# Altium footprint library PcbLib1.PcbLib: 264 footprints (part 9 of 17)
Each footprint in its own frame and in the unit in brackets; x right, y up, seen from the top. Pads: shape width x height; smd on the part's side, far side on the other; paste and mask are expansions set on the pad; w line width, h text height; cw(c..) or ccw(c..) is an arc to the next point about the centre after c.
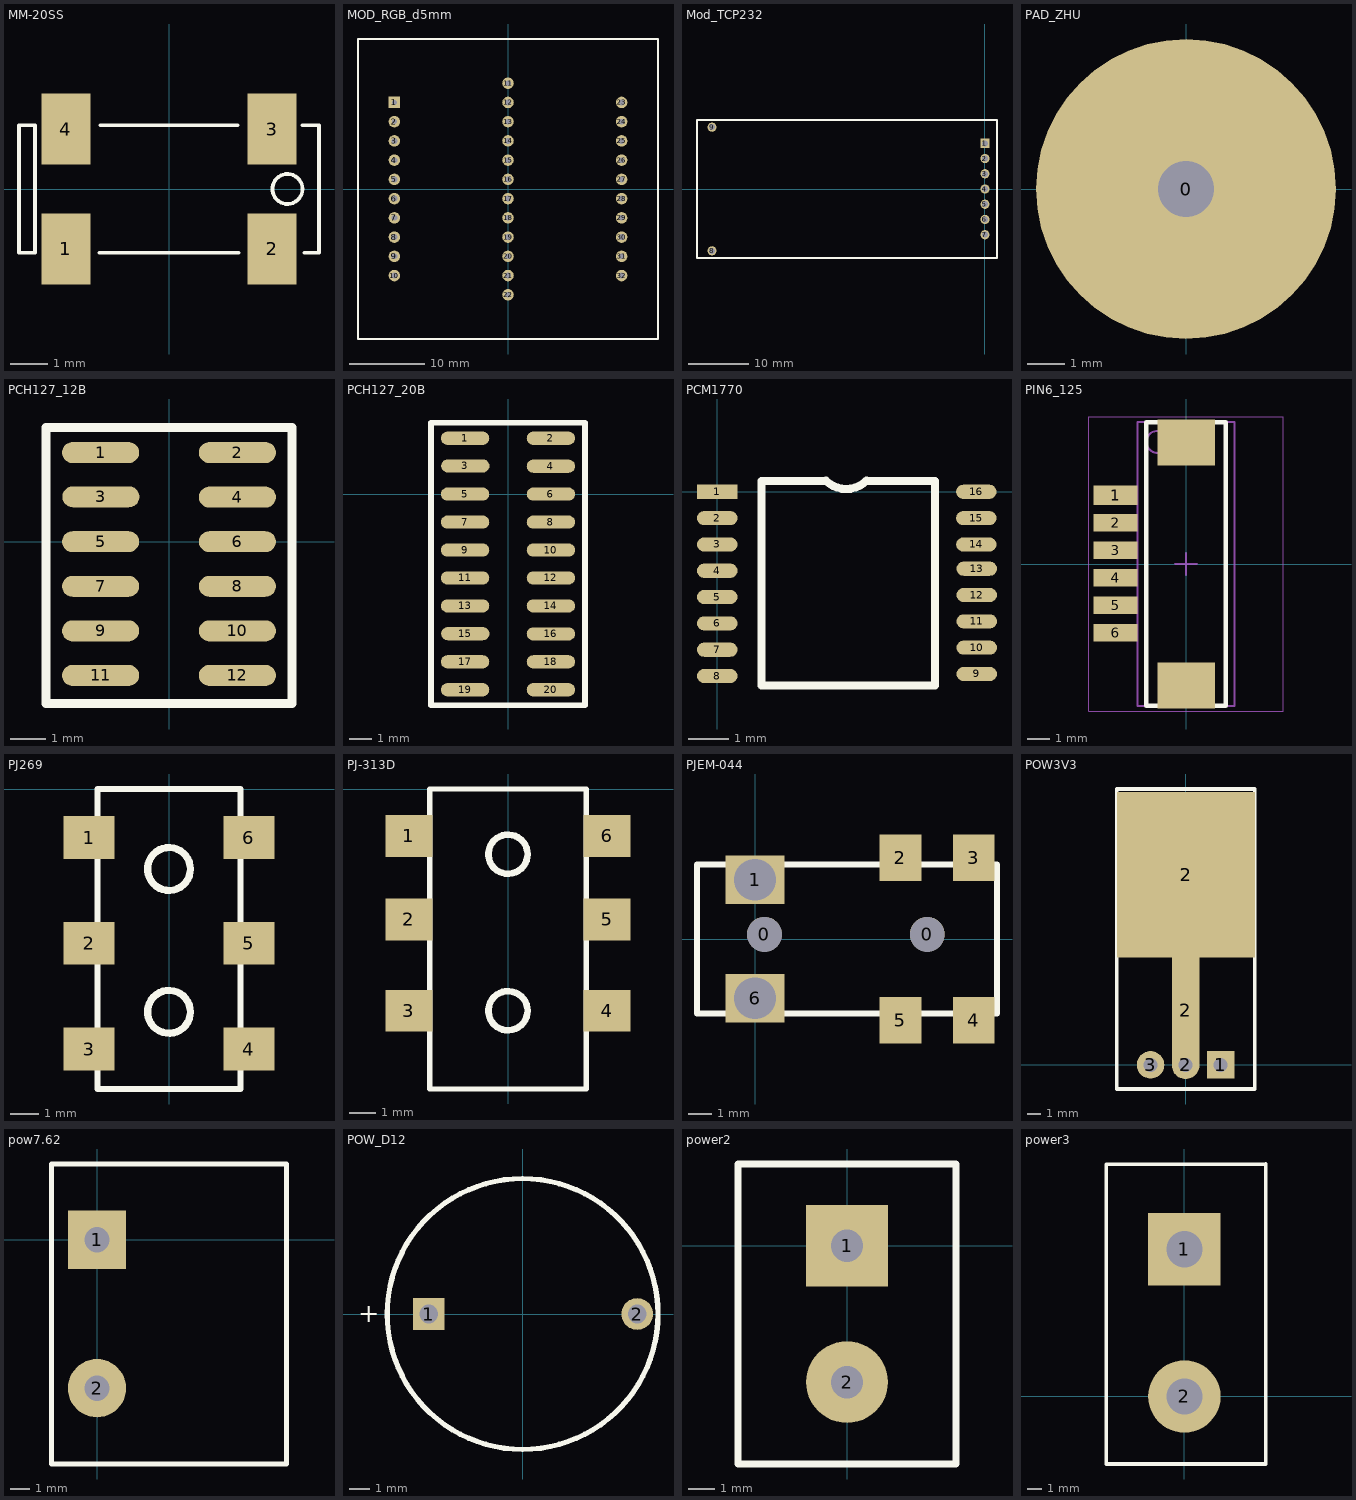
[diagram p8: the footprints below, top view; thin cyan lines are the x and y axes]

## MM-20SS [mm]
pads (4):
  rect 1.3x1.9 smd: 1(-2.75,-1.6) 2(2.75,-1.6) 3(2.75,1.6) 4(-2.75,1.6)
Top Overlay:
  circle w0.1: c3.16,0 r0.4
  lines w0.1: -1.86,-1.7 1.86,-1.7 ; -1.83,1.7 1.83,1.7 ; 3.55,1.7 4,1.7 4,-1.7 3.61,-1.7 ; -4,-1.7 -4,1.7 -3.57,1.7 -3.57,-0.02 -3.57,-1.7 -4,-1.7

## MOD_RGB_d5mm [mil]
pads (32):
  rect 60x60 hole 25: 1(-590.55,450)
  round 60 hole 25: 2(-590.55,350)
  round 60 hole 30: 3(-590.55,250) 4(-590.55,150) 5(-590.55,50) 6(-590.55,-50) 7(-590.55,-150) 8(-590.55,-250) 9(-590.55,-350) 10(-590.55,-450) 11(0,550) 12(0,450) 13(0,350) 14(0,250) 15(0,150) 16(0,50) 17(0,-50) 18(0,-150) 19(0,-250) 20(0,-350) 21(0,-450) 22(0,-550) 23(590.55,450) 24(590.55,350) 25(590.55,250) 26(590.55,150) 27(590.55,50) 28(590.55,-50) 29(590.55,-150) 30(590.55,-250) 31(590.55,-350) 32(590.55,-450)
Top Overlay:
  lines w10: -779.53,-779.53 779.53,-779.53 779.53,779.53 -779.53,779.53 -779.53,-779.53

## Mod_TCP232 [mil]
pads (9):
  rect 60x60 hole 39.37: 1(0,300)
  round 60 hole 39.37: 2(0,200) 3(0,100) 4(0,0) 5(0,-100) 6(0,-200) 7(0,-300) 8(-1791.34,-405.51) 9(-1791.34,405.51)
Top Overlay:
  lines w10: -1889.76,-452.76 -1889.76,452.76 78.74,452.76 78.74,-452.76 -1889.76,-452.76

## PAD_ZHU [mil]
pads (1):
  round 320 on Top hole 60: 0(0,0)

## PCH127_12B [mm]
pads (12):
  oval 2.2x0.6 smd: 1(-1.95,2.54) 2(1.95,2.54) 3(-1.94,1.28) 4(1.95,1.27) 5(-1.95,0) 6(1.95,0) 7(-1.95,-1.27) 8(1.95,-1.27) 9(-1.95,-2.54) 10(1.95,-2.54) 11(-1.95,-3.81) 12(1.95,-3.81)
Top Overlay:
  lines w0.254: -3.5,-4.61 3.5,-4.61 3.5,3.25 -3.5,3.25 -3.5,-4.61

## PCH127_20B [mm]
pads (20):
  oval 2.2x0.6 smd: 1(-1.95,2.54) 2(1.95,2.54) 3(-1.94,1.28) 4(1.95,1.27) 5(-1.95,0) 6(1.95,0) 7(-1.95,-1.27) 8(1.95,-1.27) 9(-1.95,-2.54) 10(1.95,-2.54) 11(-1.95,-3.81) 12(1.95,-3.81) 13(-1.95,-5.08) 14(1.95,-5.08) 15(-1.94,-6.34) 16(1.95,-6.35) 17(-1.95,-7.62) 18(1.95,-7.62) 19(-1.95,-8.89) 20(1.95,-8.89)
Top Overlay:
  lines w0.254: -3.5,-9.6 -3.5,3.25 3.5,3.25 3.5,-9.6 -3.5,-9.6

## PCM1770 [mm]
pads (16):
  rect 1x0.35 smd: 1(0,0)
  oval 1x0.35 smd: 2(0,-0.65) 3(0,-1.3) 4(0,-1.95) 5(0,-2.6) 6(0,-3.25) 7(0,-3.9) 8(0,-4.55) 9(6.41,-4.5) 10(6.41,-3.85) 11(6.41,-3.2) 12(6.41,-2.55) 13(6.41,-1.9) 14(6.4,-1.3) 15(6.4,-0.65) 16(6.4,0)
Top Overlay:
  lines w0.2: 2.68,0.27 1.09,0.27 1.09,-4.78 5.38,-4.78 5.38,0.27 ; 2.684,0.274 ccw(c3.185,0.775) 3.686,0.274 ; 3.69,0.27 5.36,0.27

## PIN6_125 [mm] "SOP, 12-Leads, Body 12.80x4.40mm, Pitch 1.25mm, IPC Medium Density"
height 2.65
pads (8):
  rect 2x0.9 smd: 1(-3.2,3.125)
  rect 2x0.8 smd: 2(-3.2,1.875) 3(-3.2,0.625) 4(-3.2,-0.625) 5(-3.2,-1.875) 6(-3.2,-3.125)
  rect 2.6x2.1 smd: ""(0.01,-5.52) ""(0.01,5.52)
Top Overlay:
  lines w0.2: -1.8,-6.45 -1.8,6.45 1.8,6.45 1.8,-6.45 -1.8,-6.45
Mechanical 13:
  circle w0.1: c-1.3,5.55 r0.5
  lines w0.1: -2.2,-6.45 -2.2,6.45 2.2,6.45 2.2,-6.45 -2.2,-6.45
Mechanical 15:
  lines w0.05: -4.425,-6.7 -4.425,6.7 4.425,6.7 4.425,-6.7 -4.425,-6.7
  lines w0.1: -0.5,0 0.5,0 ; 0,-0.5 0,0.5
3D body: height 2.65, standoff 0.1, extent -2.2,-6.45 2.2,6.45

## PJ269 [mm]
pads (6):
  rect 1.8x1.5 smd: 1(-2.8,-1.7) 2(-2.8,-5.4) 3(-2.8,-9.1) 4(2.8,-9.1) 5(2.8,-5.4) 6(2.8,-1.7)
Top Overlay:
  circle w0.254: c0,-2.8 r0.75
  circle w0.254: c0,-7.8 r0.75
  lines w0.2: 2.48,0 -2.5,0 -2.5,-10.5 2.5,-10.5 2.5,0

## PJ-313D [mm]
pads (6):
  rect 1.8x1.6 smd: 1(-3.8,-1.8) 2(-3.8,-5) 3(-3.8,-8.5) 4(3.8,-8.5) 5(3.8,-5) 6(3.8,-1.8)
Top Overlay:
  circle w0.254: c0,-8.5 r0.75
  circle w0.254: c0,-2.5 r0.75
  lines w0.2: -3,-11.5 3,-11.5 3,0 -3,0 -3,-11.5

## PJEM-044 [mm]
pads (8):
  round 1.5 hole 1.5: 0(0.4,0.2) 0(7.4,0.2)
  rect 2.54x2.1 hole 1.8: 1(0,2.55) 6(0,-2.55)
  rect 1.8x2 smd: 2(6.25,3.5) 3(9.4,3.5) 4(9.4,-3.5) 5(6.25,-3.5)
Top Overlay:
  lines w0.254: -2.5,-3.2 10.4,-3.2 10.4,3.2 -2.5,3.2 -2.5,-3.2

## POW3V3 [mm]
pads (5):
  rect 2x2 hole 1: 1(2.54,0)
  round 2 hole 1: 2(0,0) 3(-2.54,0)
  oval 2x10 smd: 2(0,3.97)
  rect 10x12 smd: 2(0.03,13.77)
Top Overlay:
  lines w0.254: -5,-1.75 5,-1.75 5,20 -5,20 -5,-1.75

## pow7.62 [mm]
pads (2):
  rect 3x3 hole 1.3: 1(0,0)
  round 3 hole 1.3: 2(0,-7.62)
Top Overlay:
  lines w0.254: -2.35,-11.52 9.74,-11.52 ; -2.35,-11.49 -2.35,3.88 ; -2.35,3.9 9.73,3.9 ; 9.75,-11.49 9.75,3.89

## POW_D12 [mm]
pads (2):
  rect 1.524x1.524 hole 0.9: 1(-4.5,0)
  round 1.524 hole 0.9: 2(5.5,0)
Top Overlay:
  circle w0.254: c0,0 r6.5
  text "+" at -7.9,-0.4 h0.89

## power2 [mil]
pads (2):
  rect 120x120 hole 47.24: 1(0,0)
  round 120 hole 47.24: 2(0,-200)
Top Overlay:
  lines w10: -160,-320 160,-320 160,120 -160,120 -160,-320

## power3 [mm]
pads (2):
  rect 5x5 hole 2.5: 1(0,10.16)
  round 5 hole 2.5: 2(0,0)
Top Overlay:
  lines w0.254: -5.39,-4.66 -5.39,16.04 5.61,16.05 5.61,-4.66 -5.39,-4.66 ; -5.39,-4.66 -5.39,-4.66